# EAGLE library part HARWIN-M52-10 (library jason-test)
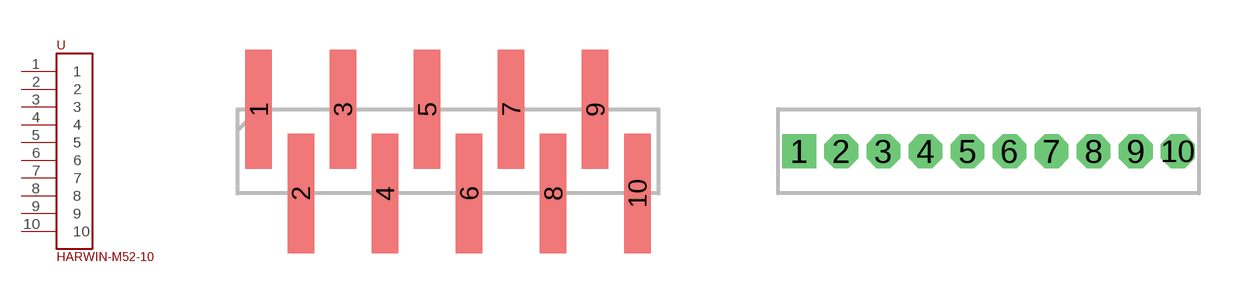
[diagram p25: symbol with the pads of HARWIN-M52-040000P1045; footprints HARWIN-M52-040000P1045, HARWIN-M52-040023V1045]

Designator prefix -

## HARWIN-M52-10SMD  [HARWIN-M52-040000P1045]
1  1
2  2
3  3
4  4
5  5
6  6
7  7
8  8
9  9
10  10

## HARWIN-M52-10PTH  [HARWIN-M52-040023V1045]
Pads as for HARWIN-M52-040000P1045

## Footprint HARWIN-M52-040000P1045 (pad centres in mm)
smd 0.8 x 3.6: 1 -5.715,1.27; 2 -4.445,-1.27; 3 -3.175,1.27; 4 -1.905,-1.27; 5 -0.635,1.27; 6 0.635,-1.27; 7 1.905,1.27; 8 3.175,-1.27; 9 4.445,1.27; 10 5.715,-1.27

## Footprint HARWIN-M52-040023V1045 (pad centres in mm)
drill 0.5 pad 1.016 square: 1 -5.715,0
drill 0.5 pad 1.016 octagon: 2 -4.445,0; 3 -3.175,0; 4 -1.905,0; 5 -0.635,0; 6 0.635,0; 7 1.905,0; 8 3.175,0; 9 4.445,0; 10 5.715,0